# Altium footprint library Trans.PcbLib: 7 footprints
Each footprint in its own frame and in the unit in brackets; x right, y up, seen from the top. Pads: shape width x height; smd on the part's side, far side on the other; paste and mask are expansions set on the pad; w line width, h text height; cw(c..) or ccw(c..) is an arc to the next point about the centre after c.
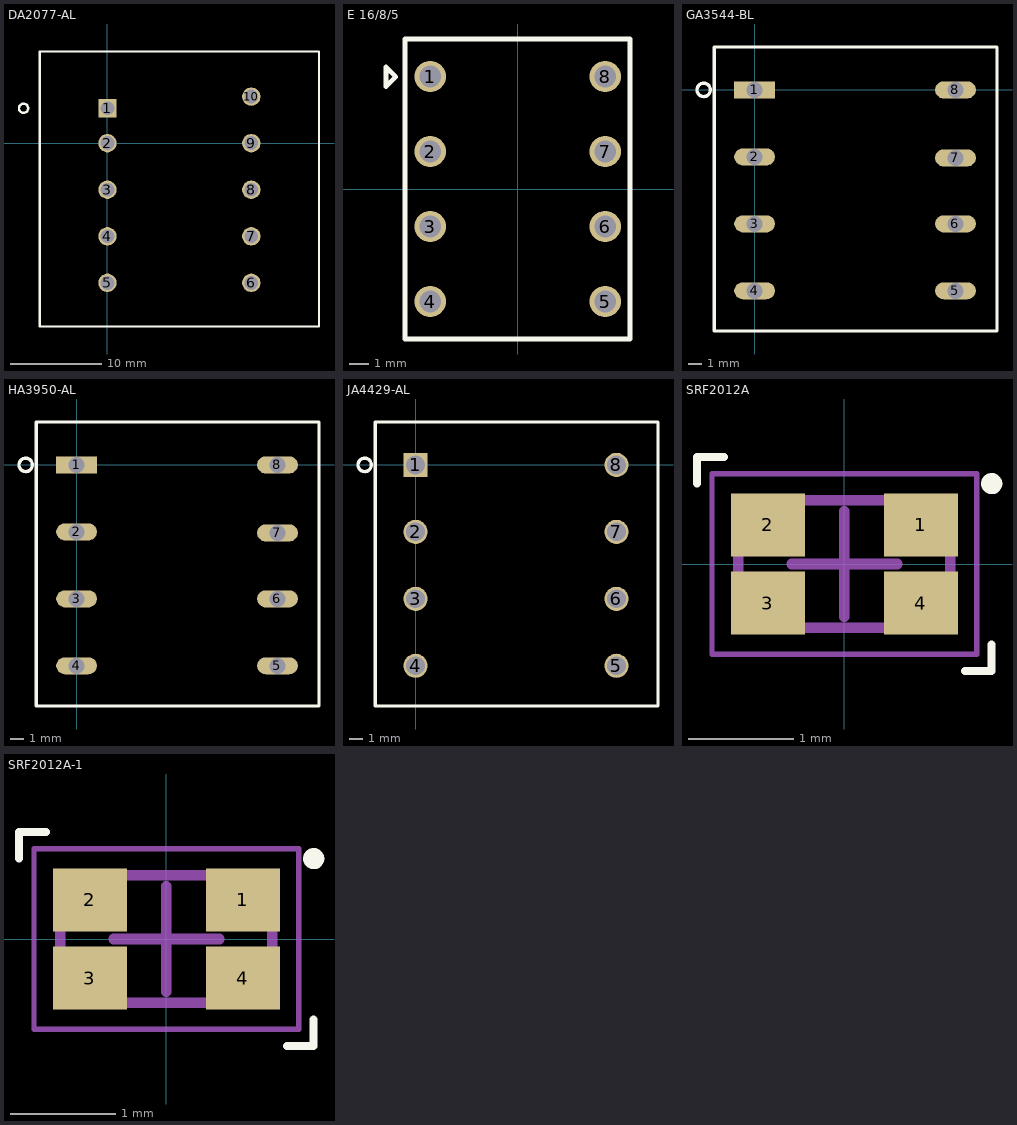
[diagram p0: the footprints below, top view; thin cyan lines are the x and y axes]

## DA2077-AL [mm]
height 24.13
pads (10):
  rect 2x2 hole 1.52: 1(0,3.81)
  round 2 hole 1.52: 2(0,0) 3(0,-5.08) 4(0,-10.16) 5(0,-15.24) 6(15.7,-15.24) 7(15.7,-10.16) 8(15.7,-5.08) 9(15.7,0) 10(15.7,5.08)
Top Overlay:
  circle w0.254: c-9.15,3.81 r0.5
  lines w0.254: -7.39,-20 23.09,-20 23.09,10 -7.39,10 -7.39,-20
3D body "Coilcraft-DA2077-AL.STEP": height 24.13, standoff -3.76, extent -5.97,-18.97 21.97,8.97
3D body: height 0.25, standoff 0, extent 11,0.81 11,0.81
3D body: height 0.25, standoff 0, extent 11.5,1.81 11.5,1.81

## E 16/8/5 [mm]
pads (8):
  round 1.6 hole 1.1: 1(-4.445,5.715) 2(-4.445,1.905) 3(-4.445,-1.905) 4(-4.445,-5.715) 5(4.445,-5.715) 6(4.445,-1.905) 7(4.445,1.905) 8(4.445,5.715)
Top Overlay:
  lines w0.254: -6.7,5.2 -6.2,5.7 -6.7,6.2 -6.7,5.2 ; -5.715,-7.62 -5.715,7.62 5.715,7.62 5.715,-7.62 -5.715,-7.62
3D body: height 18, standoff 0, extent -5.5,-7.5 5.5,7.5

## GA3544-BL [mm]
pads (8):
  rect 3.048x1.27 hole 1.2: 1(0,0)
  oval 3.048x1.27 hole 1.2: 2(0,-5) 3(0,-10) 4(0,-15) 5(15,-15) 6(15,-10) 7(15,-5.08) 8(15,0)
Top Overlay:
  circle w0.254: c-3.8,0 r0.5
  lines w0.254: -3,-18 18.1,-18 18.1,3.2 -3,3.2 -3,-18
3D body: height 0.25, standoff 0, extent 11,-3 11,-3
3D body: height 0.25, standoff 0, extent 11.5,-2 11.5,-2
3D body "Coilcraft-GA3544-BL.STEP": height 17.3, standoff -4, extent -3.05,-18.05 18.05,3.05

## HA3950-AL [mm]
height 17.3
pads (8):
  rect 3.048x1.27 hole 1.2: 1(0,0)
  oval 3.048x1.27 hole 1.2: 2(0,-5) 3(0,-10) 4(0,-15) 5(15,-15) 6(15,-10) 7(15,-5.08) 8(15,0)
Top Overlay:
  circle w0.254: c-3.8,0 r0.5
  lines w0.254: -3,-18 18.1,-18 18.1,3.2 -3,3.2 -3,-18
3D body "Coilcraft-HA3950-AL.STEP": height 17.3, standoff -4, extent -2.95,-17.95 18.15,3.15
3D body: height 0.25, standoff 0, extent 11,-3 11,-3
3D body: height 0.25, standoff 0, extent 11.5,-2 11.5,-2

## JA4429-AL [mm]
pads (8):
  rect 1.8x1.8 hole 1.4: 1(0,0)
  round 1.8 hole 1.4: 2(0,-5) 3(0,-10) 4(0,-15) 5(15,-15) 6(15,-10) 7(15,-5) 8(15,0)
Top Overlay:
  circle w0.254: c-3.8,0 r0.5
  lines w0.254: -3,-18 -3,3.2 18.1,3.2 18.1,-18 -3,-18
3D body "Coilcraft-JA4429-AL.STEP": height 17.3, standoff -4, extent -3.05,-18.05 18.05,3.05
3D body: height 0.25, standoff 0, extent 11.5,-2 11.5,-2
3D body: height 0.25, standoff 0, extent 11,-3 11,-3

## SRF2012A [mm] "EMI, 4-Leads, Body 1.20x2.00mm, Pitch 1.45mm, IPC Medium Density"
height 1.2
pads (4):
  rect 0.7x0.6 smd: 1(0.725,0.37) 2(-0.725,0.37) 3(-0.725,-0.37) 4(0.725,-0.37)
Top Overlay:
  circle w0.1: c1.397,0.762 r0.05
  lines w0.076: -1.397,0.762 -1.397,1.016 -1.143,1.016 ; 1.143,-1.016 1.397,-1.016 1.397,-0.762
Mechanical 13:
  lines w0.1: -1.005,-0.605 -1.005,0.605 1.005,0.605 1.005,-0.605 -1.005,-0.605
Mechanical 15:
  lines w0.05: -1.255,-0.855 -1.255,0.855 1.255,0.855 1.255,-0.855 -1.255,-0.855
  lines w0.1: -0.5,0 0.5,0 ; 0,-0.5 0,0.5
3D body "srf2012a-1.stp": height 1.2, standoff 0, extent -1,-0.6 1,0.6

## SRF2012A-1 [mm] "EMI, 4-Leads, Body 1.20x2.00mm, Pitch 1.45mm, IPC Medium Density"
height 1.2
pads (4):
  rect 0.7x0.6 smd: 1(0.725,0.37) 2(-0.725,0.37) 3(-0.725,-0.37) 4(0.725,-0.37)
Top Overlay:
  circle w0.1: c1.397,0.762 r0.05
  lines w0.076: -1.397,0.762 -1.397,1.016 -1.143,1.016 ; 1.143,-1.016 1.397,-1.016 1.397,-0.762
Mechanical 13:
  lines w0.1: -1.005,-0.605 1.005,-0.605 1.005,0.605 -1.005,0.605 -1.005,-0.605
Mechanical 15:
  lines w0.05: -1.255,-0.855 1.255,-0.855 1.255,0.855 -1.255,0.855 -1.255,-0.855
  lines w0.1: -0.5,0 0.5,0 ; 0,-0.5 0,0.5
3D body: height 1.2, standoff 0.15, extent -1.005,-0.605 1.005,0.605